# EAGLE library part LTC3453 (library PowerProducts)
Synchronous Buck-Boost High Power White LED Driver
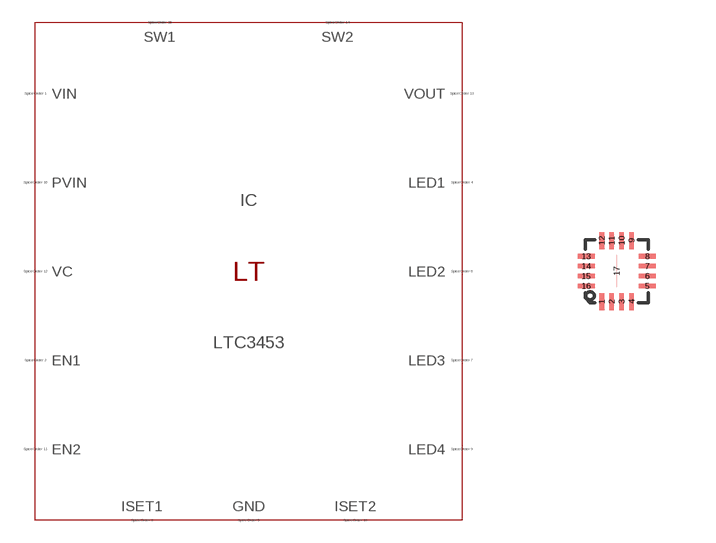
[diagram p192: symbol with the pads of QFN16(UF); footprint QFN16(UF)]

Designator prefix IC

## LTC3453 (SPICEMODEL: LTC3453.sub; SPICEPREFIX: X; VALUE2: LTC3453)  [QFN16(UF)]
1  VIN  pas
2  EN1  pas
3  ISET1  pas
4  LED1  pas
5  GND  pas
6  LED2  pas
7  LED3  pas
8  GND  pas
9  LED4  pas
10  ISET2  pas
11  EN2  pas
12  VC  pas
13  VOUT  pas
14  SW2  pas
15  SW1  pas
16  PVIN  pas
17  GND  pas

## Footprint QFN16(UF) (pad centres in mm)
Package generated from: QFN16(UF).asc (!PADS-POWERPCB-V9.3-BASIC! DESIGN DATABASE ASCII FILE 1.0) with :import-pads-powerpcb-v5.ulp Version 1.0.1 at 04.10.2012 14:11:23
smd 0.116 x 0.426: 1 -0.371,-0.764; 2 -0.124,-0.764; 3 0.124,-0.764; 4 0.371,-0.764; 9 0.371,0.764; 10 0.124,0.764; 11 -0.124,0.764; 12 -0.371,0.764
smd 0.426 x 0.116: 5 0.764,-0.371; 6 0.764,-0.124; 7 0.764,0.124; 8 0.764,0.371; 13 -0.764,0.371; 14 -0.764,0.124; 15 -0.764,-0.124; 16 -0.764,-0.371
smd 0 x 0.819: 17 0,0